# Altium footprint library 7343.PcbLib: 1 footprints
Each footprint in its own frame and in the unit in brackets; x right, y up, seen from the top. Pads: shape width x height; smd on the part's side, far side on the other; paste and mask are expansions set on the pad; w line width, h text height; cw(c..) or ccw(c..) is an arc to the next point about the centre after c.
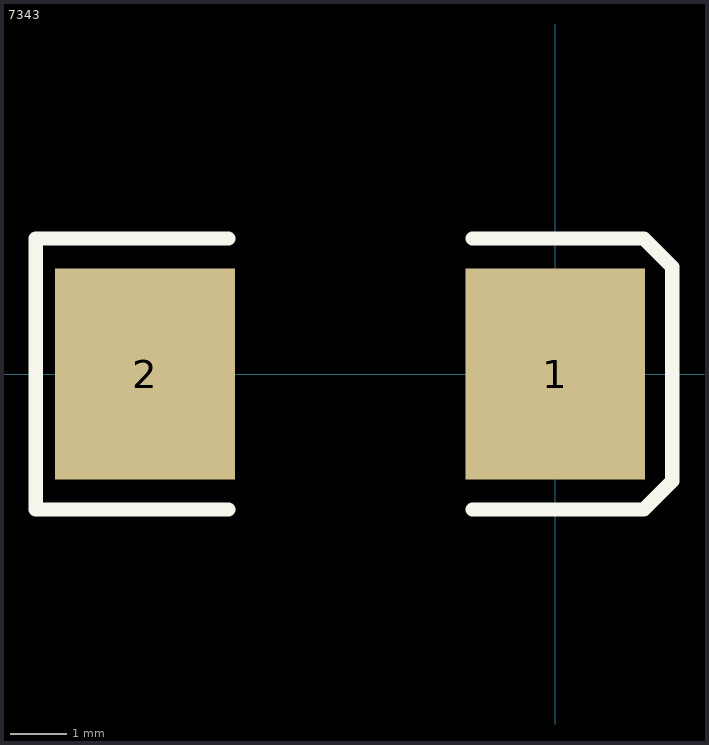
[diagram p0: the footprint, top view; thin cyan lines are the x and y axes]

## 7343 [mm]
height 3.175
pads (2):
  rect 3.2x3.75 smd: 1(0,0) 2(-7.3,0)
TopOverlay:
  lines w0.254: -5.817,-2.413 -9.246,-2.413 -9.246,2.413 -5.817,2.413 ; -1.473,-2.413 1.575,-2.413 2.083,-1.905 2.083,-1.854 2.083,1.854 2.083,1.905 1.575,2.413 -1.473,2.413
Mechanical4:
  text ".1" at 0.432,0 h0.03
  text ".1" at -0.33,0 h0.03
3D body: height 3.96, standoff 0.02, extent -8.091,-2.33 0.906,2.322